# EAGLE library part RF-LINK_RX (library Ipfcz)
RF Link Receiver (434 MHz, 315 MHz) These wireless receivers work with equivalent transmitters. They can easily fit into a breadboard and work well with microcontrollers to create a very simple wireless data link. Since these are only receivers, they will only work communicating data one-way, you would need two pairs (of different frequencies) to act as a transmitter/receiver pair..https://arduino-shop.cz/arduino/3172-nicerf-433mhz-vysilac-prijimac-antena-set-3ks.html?gclid=Cj0KCQiApt_xBRDxARIsAAMUMu9ytbPAJVJoCFmnPErxJJjcUJUaiy6aU1-Ntjcd1giAIkBWV9RzoL0aAiFDEALw_wcB SparkFun Products RF Link Receiver - 4800bps (434 MHz) <https://www.sparkfun.com/products/10532>(WRL-10532)
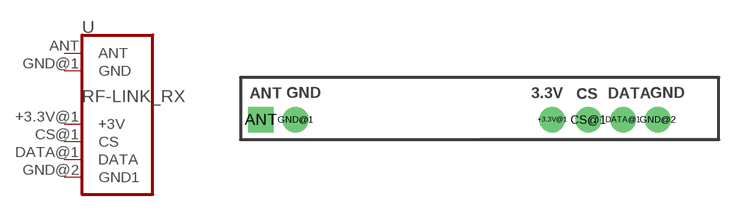
[diagram p2: symbol with the pads of RF-LINK_RX; footprint RF-LINK_RX]

Designator prefix -

## RF-LINK_RX (SF_ID: WRL-10533)  [RF-LINK_RX]
+3.3V@1  +3V  pwr
ANT  ANT  pas
CS@1  CS
DATA@1  DATA  in
GND@1  GND  pwr
GND@2  GND1  pwr

## Footprint RF-LINK_RX (pad centres in mm)
RF Link Receiver, PTH Package These RF receivers easily fit into a breadboard and work well with microcontrollers to create a very simple wireless data link. SparkFun Product <https://www.sparkfun.com/products/10532> Datasheet <http://cdn.sparkfun.com/datasheets/Wireless/General/RWS-371-6_433.92MHz_ASK_RF_Receiver_Module_Data_Sheet.pdf>
drill 1.016 pad 1.88: +3.3V@1 5.7,-1.17; CS@1 8.34,-1.17; DATA@1 10.88,-1.17; GND@1 -13.06,-1.17; GND@2 13.42,-1.17
drill 1.016 pad 1.88 square: ANT -15.6,-1.17